# EAGLE library part TMC5072-LA-T (library TMC5072-LA-T)
Dual silent stepper motor cDriver 5 to 20V, up to 1.1A with SPI Interface, 256 Steps, SixPoint ramp controller, SpreadCycle and Stealthchop Source: Datasheet <https://www.analog.com/TMC5072/datasheet>
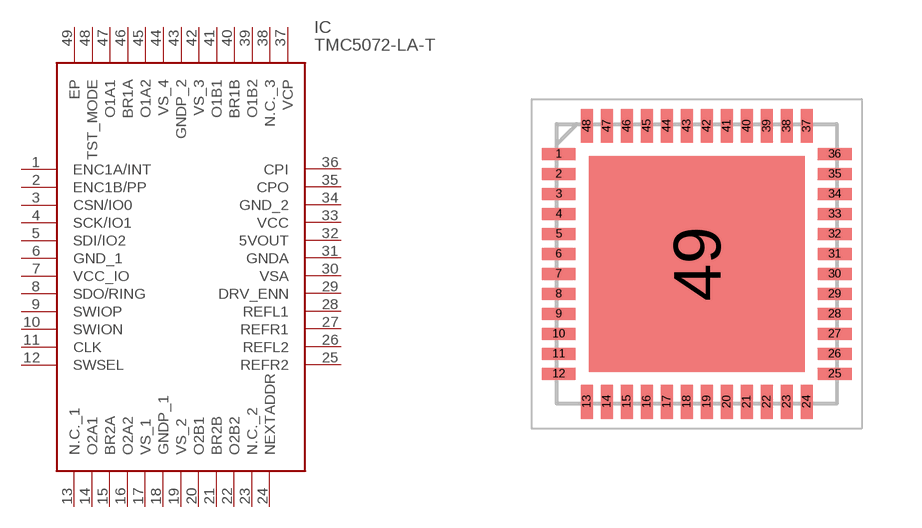
[diagram p0: symbol with the pads of QFN50P700X700X90-49N; footprint QFN50P700X700X90-49N]

Designator prefix IC

## TMC5072-LA-T (Description: Dual silent stepper motor cDriver 5 to 20V, up to 1.1A with SPI Interface, 256 Steps, SixPoint ramp controller, SpreadCycle and Stealthchop; Height: 0.9mm; Manufacturer_Name: Analog Devices; Manufacturer_Part_Number: TMC5072-LA-T; Mouser_Part_Number: 700-TMC5072-LA-T; Mouser_Price-Stock: https://www.mouser.co.uk/ProductDetail/ADI-Trinamic/TMC5072-LA-T?qs=7MVldsJ5UaxzlZc%252BdABOIA%3D%3D)  [QFN50P700X700X90-49N]
1  ENC1A/INT
2  ENC1B/PP
3  CSN/IO0
4  SCK/IO1
5  SDI/IO2
6  GND_1
7  VCC_IO
8  SDO/RING
9  SWIOP
10  SWION
11  CLK
12  SWSEL
13  N.C._1
14  O2A1
15  BR2A
16  O2A2
17  VS_1
18  GNDP_1
19  VS_2
20  O2B1
21  BR2B
22  O2B2
23  N.C._2
24  NEXTADDR
25  REFR2
26  REFL2
27  REFR1
28  REFL1
29  DRV_ENN
30  VSA
31  GNDA
32  5VOUT
33  VCC
34  GND_2
35  CPO
36  CPI
37  VCP
38  N.C._3
39  O1B2
40  BR1B
41  O1B1
42  VS_3
43  GNDP_2
44  VS_4
45  O1A2
46  BR1A
47  O1A1
48  TST_MODE
49  EP

## Footprint QFN50P700X700X90-49N (pad centres in mm)
TMC5072-LA-T
smd 0.85 x 0.3: 1 -3.45,2.75; 2 -3.45,2.25; 3 -3.45,1.75; 4 -3.45,1.25; 5 -3.45,0.75; 6 -3.45,0.25; 7 -3.45,-0.25; 8 -3.45,-0.75; 9 -3.45,-1.25; 10 -3.45,-1.75; 11 -3.45,-2.25; 12 -3.45,-2.75; 25 3.45,-2.75; 26 3.45,-2.25; 27 3.45,-1.75; 28 3.45,-1.25; 29 3.45,-0.75; 30 3.45,-0.25; 31 3.45,0.25; 32 3.45,0.75; 33 3.45,1.25; 34 3.45,1.75; 35 3.45,2.25; 36 3.45,2.75
smd 0.3 x 0.85: 13 -2.75,-3.45; 14 -2.25,-3.45; 15 -1.75,-3.45; 16 -1.25,-3.45; 17 -0.75,-3.45; 18 -0.25,-3.45; 19 0.25,-3.45; 20 0.75,-3.45; 21 1.25,-3.45; 22 1.75,-3.45; 23 2.25,-3.45; 24 2.75,-3.45; 37 2.75,3.45; 38 2.25,3.45; 39 1.75,3.45; 40 1.25,3.45; 41 0.75,3.45; 42 0.25,3.45; 43 -0.25,3.45; 44 -0.75,3.45; 45 -1.25,3.45; 46 -1.75,3.45; 47 -2.25,3.45; 48 -2.75,3.45
smd 5.4 x 5.4: 49 0,0